# Altium footprint library PCB - BUTTONS - WURTH WS-TATL 440__67082622.PcbLib: 1 footprints
Each footprint in its own frame and in the unit in brackets; x right, y up, seen from the top. Pads: shape width x height; smd on the part's side, far side on the other; paste and mask are expansions set on the pad; w line width, h text height; cw(c..) or ccw(c..) is an arc to the next point about the centre after c.
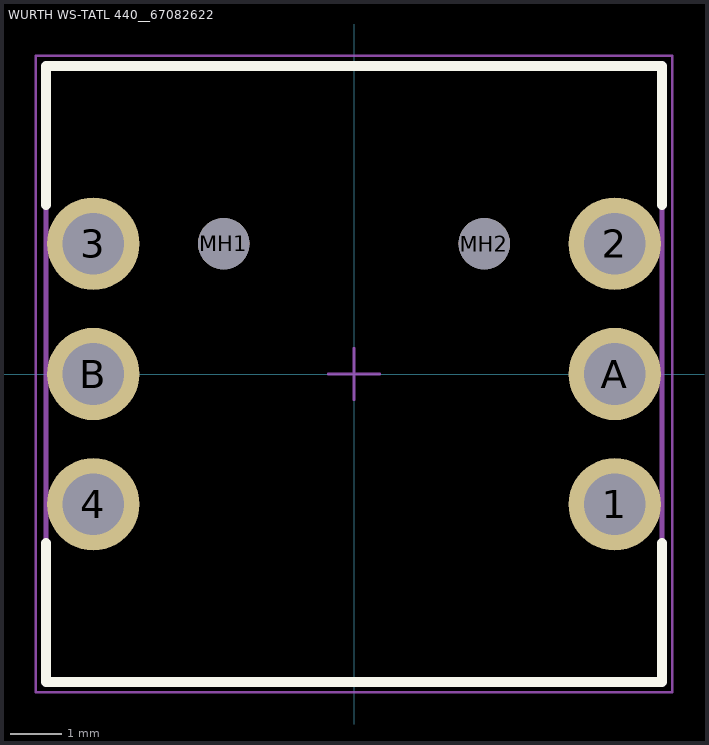
[diagram p0: the footprint, top view; thin cyan lines are the x and y axes]

## WURTH WS-TATL 440__67082622 [mm]
height 8.2
pads (8):
  round 1.8 hole 1.2: 1(5.08,-2.54) 2(5.08,2.54) 3(-5.08,2.54) 4(-5.08,-2.54) A(5.08,0) B(-5.08,0)
  round 1 hole 1 unplated: MH1(-2.54,2.54) MH2(2.54,2.54)
Top Overlay:
  lines w0.2: -6,-3.3 -6,-6 6,-6 6,-3.3 ; -6,3.3 -6,6 6,6 6,3.3
Mechanical 13:
  lines w0.1: -6,-6 6,-6 6,6 -6,6 -6,-6
Mechanical 15:
  lines w0.05: -0.5,0 0.5,0 ; 0,-0.5 0,0.5 ; -6.2,-6.2 6.2,-6.2 6.2,6.2 -6.2,6.2 -6.2,-6.2
3D body "440xx67082622.stp": height 8.3, standoff -3.2, extent -6,-6 6,6